# Altium footprint library Class.PcbLib: 36 footprints (part 1 of 3)
Each footprint in its own frame and in the unit in brackets; x right, y up, seen from the top. Pads: shape width x height; smd on the part's side, far side on the other; paste and mask are expansions set on the pad; w line width, h text height; cw(c..) or ccw(c..) is an arc to the next point about the centre after c.
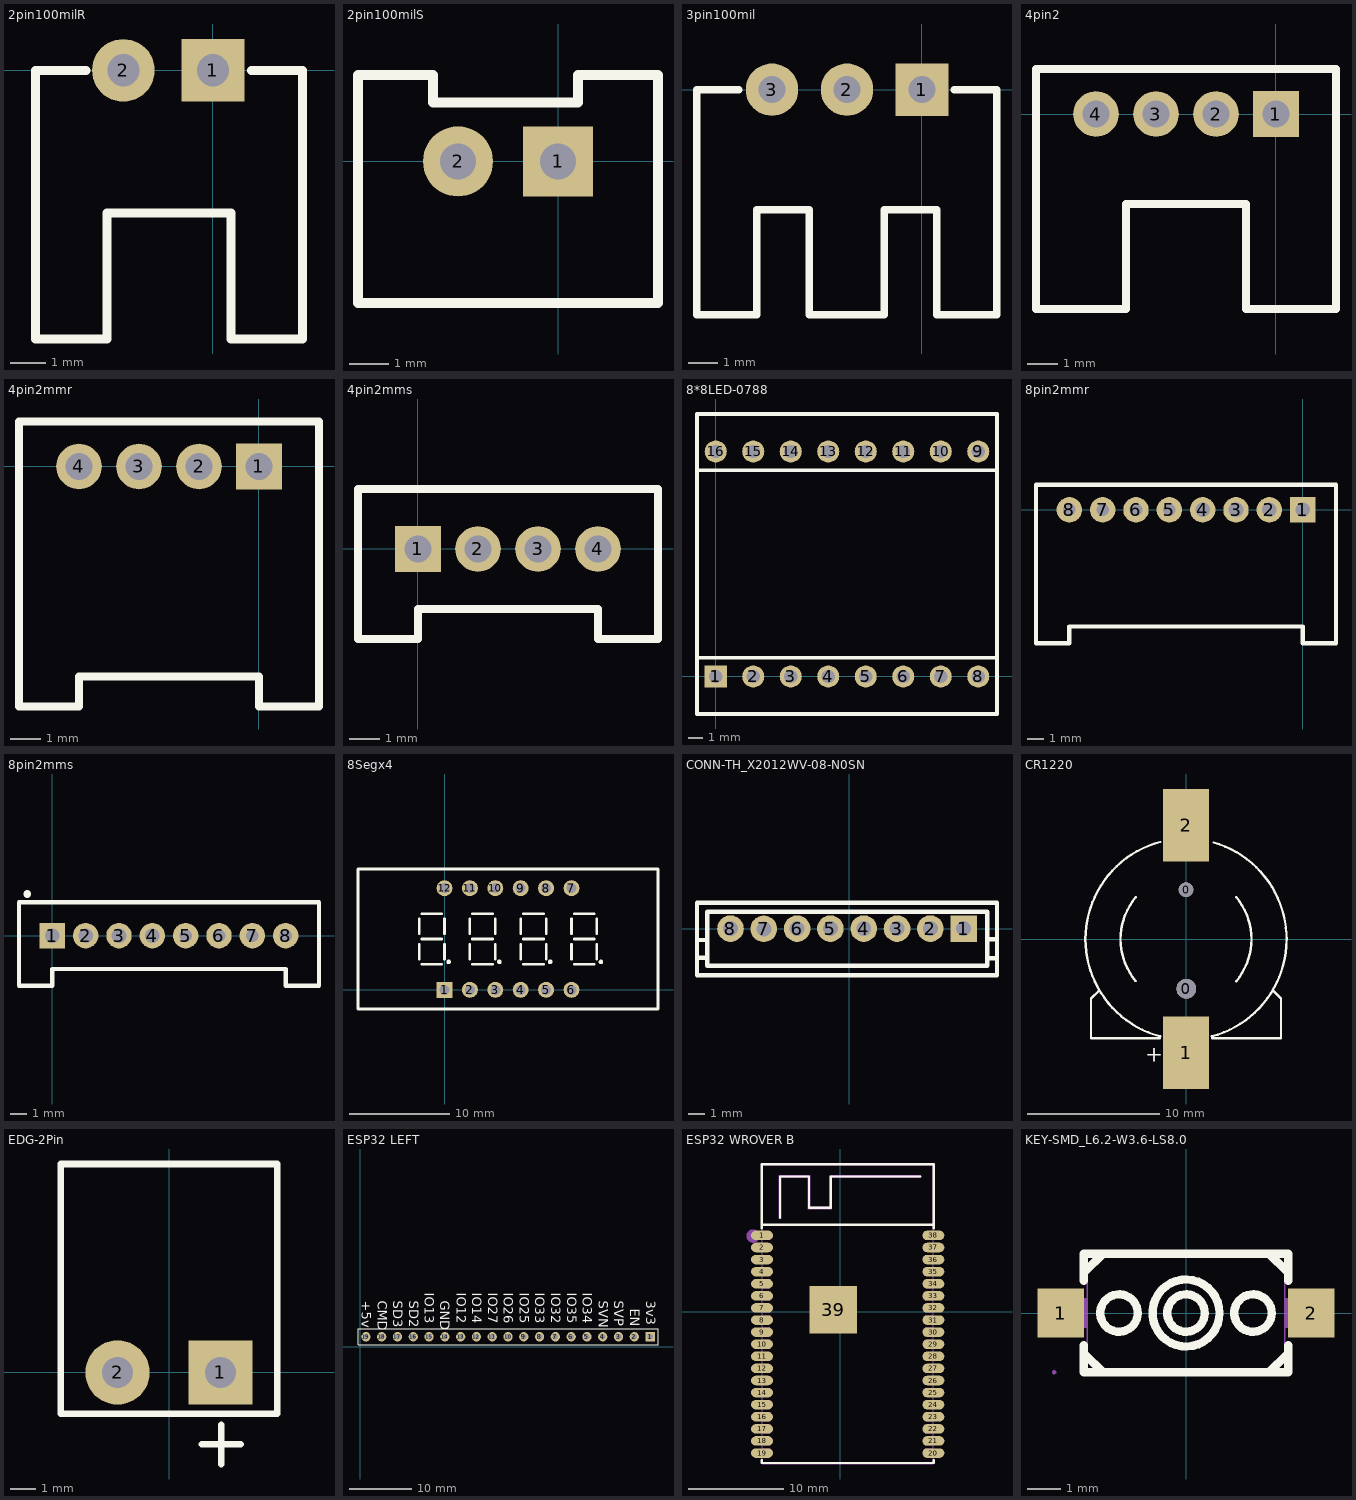
[diagram p0: the footprints below, top view; thin cyan lines are the x and y axes]

## 2pin100milR [mil]
height 228.35
pads (2):
  rect 70x70 hole 36: 1(0,0)
  round 70 hole 36: 2(-100,0)
Top Overlay:
  lines w10: -141.73,0 -198.11,0 -198.11,-300 -118.11,-300 -118.11,-159.25 20,-159.25 ; 20,-160 20,-300 100,-300 100,0 43.31,0

## 2pin100milS [mil]
height 228.35
pads (2):
  rect 70x70 hole 36: 1(0,0)
  round 70 hole 36: 2(-100,0)
Top Overlay:
  lines w10: -200,-141.73 100,-141.73 100,86.61 20,86.61 20,59.06 -125,59.06 -125,86.61 -200,86.61 -200,-141.73

## 3pin100mil [mil]
height 196.85
pads (3):
  rect 70x70 hole 36: 1(0,0)
  round 70 hole 36: 2(-100,0) 3(-200,0)
Top Overlay:
  lines w10: -244.09,0 -300,0 -300,-300 -220,-300 -220,-160 -150,-160 -150,-300 -50,-300 -50,-160 20,-160 20,-300 100,-300 100,0 43.31,0

## 4pin2 [mil]
height 196.85
pads (4):
  rect 60x60 hole 35: 1(0,0)
  round 60 hole 35: 2(-78.74,0) 3(-157.48,0) 4(-236.22,0)
Top Overlay:
  lines w10: -314.96,-255.91 -196.85,-255.91 -196.85,-118.11 -39.37,-118.11 -39.37,-255.91 78.74,-255.91 78.74,59.06 -314.96,59.06 -314.96,-255.91

## 4pin2mmr [mil]
height 196.85
pads (4):
  rect 60x60 hole 35: 1(0,0)
  round 60 hole 35: 2(-78.74,0) 3(-157.48,0) 4(-236.22,0)
Top Overlay:
  lines w10: -314.96,-314.96 -314.96,59.06 78.74,59.06 78.74,-314.96 0,-314.96 0,-275.59 -236.22,-275.59 -236.22,-314.96 -314.96,-314.96

## 4pin2mms [mil]
height 393.7
pads (4):
  rect 60x60 hole 35: 1(0,0)
  round 60 hole 35: 2(78.74,0) 3(157.48,0) 4(236.22,0)
Top Overlay:
  lines w10: -78.74,-118.11 0,-118.11 0,-78.74 236.22,-78.74 236.22,-118.11 314.96,-118.11 314.96,78.74 -78.74,78.74 -78.74,-118.11

## 8*8LED-0788 [mm]
pads (16):
  rect 1.5x1.5 hole 0.9: 1(0,0)
  round 1.5 hole 0.9: 2(2.54,0) 3(5.08,0) 4(7.62,0) 5(10.16,0) 6(12.7,0) 7(15.24,0) 8(17.78,0) 9(17.78,15.24) 10(15.24,15.24) 11(12.7,15.24) 12(10.16,15.24) 13(7.62,15.24) 14(5.08,15.24) 15(2.54,15.24) 16(0,15.24)
Top Overlay:
  lines w0.254: -1.27,1.27 19.05,1.27 ; -1.27,13.97 19.05,13.97 ; -1.27,-2.54 19.05,-2.54 19.05,17.78 -1.27,17.78 -1.27,-2.54

## 8pin2mmr [mil]
height 196.85
pads (8):
  rect 60x60 hole 35: 1(0,0)
  round 60 hole 35: 2(-78.74,0) 3(-157.48,0) 4(-236.22,0)
  round 60 hole 30: 5(-314.96,0) 6(-393.7,0) 7(-472.44,0) 8(-551.18,0)
Top Overlay:
  lines w10: -629.92,-314.96 -629.92,59.06 78.74,59.06 78.74,-314.96 0,-314.96 0,-275.59 -551.18,-275.59 -551.18,-314.96 -629.92,-314.96

## 8pin2mms [mil]
height 196.85
pads (8):
  rect 60x60 hole 35: 1(0,0)
  round 60 hole 35: 2(78.74,0) 3(157.48,0) 4(236.22,0)
  round 60 hole 30: 5(314.96,0) 6(393.7,0) 7(472.44,0) 8(551.18,0)
Top Overlay:
  circle w10: c-59.06,98.43 r3.94
  lines w10: -78.74,-118.11 -78.74,78.74 629.92,78.74 629.92,-118.11 551.18,-118.11 551.18,-78.74 0,-78.74 0,-118.11 -78.74,-118.11

## 8Segx4 [mm]
pads (12):
  rect 1.6x1.6 hole 1: 1(0,0)
  round 1.6 hole 1: 2(2.54,0) 3(5.08,0) 4(7.62,0) 5(10.16,0) 6(12.7,0) 7(12.7,10.16) 8(10.16,10.16) 9(7.62,10.16) 10(5.08,10.16) 11(2.54,10.16) 12(0,10.16)
Top Overlay:
  circle w0.254: c0.408,2.794 r0.1
  circle w0.254: c5.488,2.794 r0.1
  circle w0.254: c10.568,2.794 r0.1
  circle w0.254: c15.648,2.794 r0.1
  lines w0.254: -2.54,3.048 -2.54,4.572 ; -2.54,5.588 -2.54,7.112 ; -2.286,2.54 -0.254,2.54 ; -2.286,5.08 -0.254,5.08 ; -2.286,7.62 -0.254,7.62 ; 0,3.048 0,4.572 ; 0,5.588 0,7.112 ; 2.54,3.048 2.54,4.572 ; 2.54,5.588 2.54,7.112 ; 2.794,2.54 4.826,2.54 ; 2.794,5.08 4.826,5.08 ; 2.794,7.62 4.826,7.62 ; 5.08,3.048 5.08,4.572 ; 5.08,5.588 5.08,7.112 ; 7.62,3.048 7.62,4.572 ; 7.62,5.588 7.62,7.112 ; 7.874,2.54 9.906,2.54 ; 7.874,5.08 9.906,5.08 ; 7.874,7.62 9.906,7.62 ; 10.16,3.048 10.16,4.572 ; 10.16,5.588 10.16,7.112 ; 12.7,3.048 12.7,4.572 ; 12.7,5.588 12.7,7.112 ; 12.954,2.54 14.986,2.54 ; 12.954,5.08 14.986,5.08 ; 12.954,7.62 14.986,7.62 ; 15.24,3.048 15.24,4.572 ; 15.24,5.588 15.24,7.112 ; -8.65,-1.92 -8.65,12.08 21.35,12.08 21.35,-1.92 -8.65,-1.92

## CONN-TH_X2012WV-08-N0SN [mil]
pads (8):
  rect 63x63 hole 35.4 mask+1.97: 1(270.3,0.2)
  round 63 hole 35.4 mask+1.97: 2(191.5,0.2) 3(112.8,0.2) 4(34.1,0.2) 5(-44.7,0.2) 6(-123.4,0.2) 7(-202.2,-0.4) 8(-280.9,0.2)
Top Overlay:
  lines w10: -360,-109.9 -360,61.3 ; -360,-68.9 -337,-68.9 ; -360,-26.4 -337,-26.4 ; -359.6,-110 349,-110 349,61.2 -359.6,61.2 ; 326,-70.1 349,-70.1 ; 326,-25.1 349,-25.1 ; -336,-87.5 -336,39.9 326,39.9 326,-87.5 -336,-87.5

## CR1220 [mm] "钮扣电池"
height 3
pads (4):
  round 1.1 hole 1.1: 0(0,3.75)
  round 1.5 hole 1.5: 0(0.025,-3.75)
  rect 3.5x5.5 smd: 1(0,-8.6) 2(0,8.628)
Top Overlay:
  lines w0.178: -6.6,-3.9 -7.2,-4.5 -7.2,-7.5 -2,-7.5 ; -3.815,-3.169 cw(c0,0) -3.812,3.172 ; -1.963,-7.363 cw(c0,0) -7.62,0 cw(c0,0) -1.963,7.363 ; 1.963,-7.363 ccw(c0,0) 2.093,7.327 ; 2,-7.5 7.2,-7.5 7.2,-4.5 6.625,-3.925 ; 3.81,-3.175 ccw(c0,0) 3.812,3.172
  text "+" at -3.1,-9.7 h2.03

## EDG-2Pin [mm]
height 7.3
pads (2):
  rect 2.5x2.5 hole 1.2: 1(2,0)
  round 2.5 hole 1.2: 2(-2,0)
Top Overlay:
  lines w0.254: 1.27,-2.794 2.032,-2.794 2.794,-2.794 ; 2.032,-3.556 2.032,-2.032 ; -4.2,-1.6 -4.2,8.1 4.2,8.1 4.2,-1.6 -4.2,-1.6

## ESP32 LEFT [mm]
pads (19):
  rect 1.5x1.5 hole 0.9: 1(46.634,1.573)
  round 1.5 hole 0.9: 2(44.094,1.573) 3(41.554,1.573) 4(39.014,1.573) 5(36.474,1.573) 6(33.934,1.573) 7(31.394,1.573) 8(28.854,1.573) 9(26.314,1.573) 10(23.774,1.573) 11(21.234,1.573) 12(18.694,1.573) 13(16.154,1.573) 14(13.614,1.573) 15(11.074,1.573) 16(8.534,1.573) 17(5.994,1.573) 18(3.454,1.573) 19(0.914,1.573)
Top Overlay:
  lines w0.2: 8.957,0.303 9.169,0.303 ; -0.356,0.303 -0.356,2.843 47.904,2.843 47.904,0.303 45.999,0.303 -0.356,0.303
  text "IO13" at 10.414,8.636 h1.52
  text "SD2" at 7.874,7.366 h1.52
  text "SD3" at 5.334,7.366 h1.52
  text "CMD" at 2.794,7.366 h1.52
  text "+5v" at 0.254,7.366 h1.52
  text "GND" at 12.86,7.383 h1.52
  text "IO12" at 15.494,8.636 h1.52
  text "IO14" at 18.034,8.636 h1.52
  text "IO27" at 20.574,8.636 h1.52
  text "IO26" at 23.114,8.636 h1.52
  text "IO33" at 28.194,8.636 h1.52
  text "IO32" at 30.734,8.636 h1.52
  text "IO35" at 33.274,8.636 h1.52
  text "IO34" at 35.814,8.636 h1.52
  text "EN" at 43.434,6.096 h1.52
  text "SVN" at 38.354,7.366 h1.52
  text "SVP" at 40.894,7.366 h1.52
  text "IO25" at 25.654,8.636 h1.52
  text "3v3" at 45.974,7.366 h1.52

## ESP32 WROVER B [mil]
pads (39):
  oval 90.6x39.4 smd mask+2: 1(-323.6,315) 2(-323.6,265) 3(-323.6,215) 4(-323.6,165) 5(-323.6,115) 6(-323.6,65) 7(-323.6,15) 8(-323.6,-35) 9(-323.6,-85) 10(-323.6,-135) 11(-323.6,-185) 12(-323.6,-235) 13(-323.6,-285) 14(-323.6,-335) 15(-323.6,-385) 16(-323.6,-435) 17(-323.6,-485) 18(-323.6,-535) 19(-323.6,-585) 20(385,-585) 21(385,-535) 22(385,-485) 23(385,-435) 24(385,-385) 25(385,-335) 26(385,-285) 27(385,-235) 28(385,-185) 29(385,-135) 30(385,-85) 31(385,-35) 32(385,15) 33(385,65) 34(385,115) 35(385,165) 36(385,215) 37(385,265) 38(385,315)
  rect 196.9x196.9 smd mask+2: 39(-28.3,7.5)
Top Overlay:
  lines w10: -324.3,-613.8 -324.3,-626.3 385.7,-626.3 385.7,-613.8 ; -324.3,343.7 -324.3,357.8 ; -324.3,343.8 -324.3,349.9 ; -249.3,388.7 -249.3,558.7 -129.3,558.7 -129.3,428.7 -39.3,428.7 -39.3,558.7 330.7,558.7 ; 385.7,343.7 385.7,358.7 -324.3,358.7 -324.3,608.7 385.7,608.7 385.7,343.8
Mechanical 6:
  circle w27.6: c-360.9,312.2 r13.8
  region: -244.5,386.3 -244.5,553.2 -244.1,553.6 -134.3,553.6 -134.3,423.3 -34.7,423.3 -34.3,422.9 -34.3,553.6 333.5,553.6 333.8,553.2 333.8,562.6 333.1,563.4 -43.7,563.4 -43.7,433.5 -124,433.5 -124,563.4 -124.4,563.8 -254.3,563.8 -254.3,386.3
Mechanical 15:
  drawing of 44 lines, arcs and shapes, not listed

## KEY-SMD_L6.2-W3.6-LS8.0 [mm]
pads (2):
  rect 1.4x1.5 smd mask+0.051: 1(-3.8,0) 2(3.8,0)
Top Overlay:
  circle w0.254: c0,0 r0.568
  circle w0.254: c0,0 r1.016
  circle w0.254: c2.032,0 r0.568
  circle w0.254: c-2.032,0 r0.568
  lines w0.254: -3.1,-0.981 -3.1,-1.8 3.1,-1.8 3.1,-0.981 ; -3.1,0.981 -3.1,1.8 3.1,1.8 3.1,0.981 ; -3.048,-1.27 -2.54,-1.778 ; -3.048,1.27 -2.54,1.778 ; 2.54,-1.778 3.048,-1.27 ; 2.54,1.778 3.048,1.27
Mechanical 15:
  region: -3.94,-1.8 -3.94,-1.775 -3.975,-1.74 -4.025,-1.74 -4.06,-1.775 -4.06,-1.8 -4.06,-1.825 -4.025,-1.86 -3.975,-1.86 -3.94,-1.825
  region: 2.99,-0.45 2.99,0.45 3.31,0.45 3.31,-0.45
  region: 3.3,-0.45 3.3,0.45 4,0.45 4,-0.45
  region: -3.3,0.45 -3.3,-0.45 -4,-0.45 -4,0.45
  region: -2.99,0.45 -2.99,-0.45 -3.31,-0.45 -3.31,0.45
  lines w0.051: -3,-1.8 -3,1.8 3,1.8 3,-1.8 -3,-1.8